# Altium footprint library multiplex.PcbLib: 1 footprints
Each footprint in its own frame and in the unit in brackets; x right, y up, seen from the top. Pads: shape width x height; smd on the part's side, far side on the other; paste and mask are expansions set on the pad; w line width, h text height; cw(c..) or ccw(c..) is an arc to the next point about the centre after c.
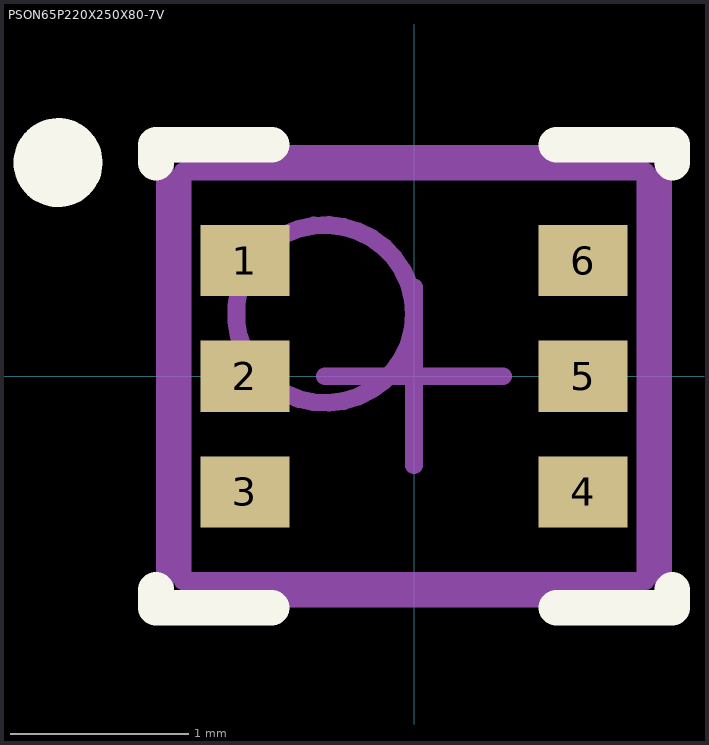
[diagram p0: the footprint, top view; thin cyan lines are the x and y axes]

## PSON65P220X250X80-7V [mm] "PSON, 6-Leads, Body 2.2x2.5 mm, Pitch 0.65mm, NSC Recommended (SC-70 Land)"
height 0.8
pads (6):
  rect 0.5x0.4 smd paste-0.125 mask+0.051: 1(-0.95,0.65) 2(-0.95,0) 3(-0.95,-0.65) 4(0.95,-0.65) 5(0.95,0) 6(0.95,0.65)
Top Overlay:
  circle w0.25: c-2,1.2 r0.125
  lines w0.2: -1.45,-1.3 -1.45,-1.2 ; -1.45,1.2 -1.45,1.3 ; -1.445,-1.3 -0.8,-1.3 ; -1.445,1.3 -0.8,1.3 ; 0.8,-1.3 1.445,-1.3 ; 0.8,1.3 1.445,1.3 ; 1.45,-1.3 1.45,-1.2 ; 1.45,1.2 1.45,1.3
Mechanical 13:
  circle w0.1: c-0.5,0.35 r0.5
  lines w0.1: -1.3,-1.15 1.3,-1.15 1.3,1.15 -1.3,1.15 -1.3,-1.15
Mechanical 15:
  lines w0.1: -0.5,0 0.5,0 ; 0,-0.5 0,0.5 ; -1.4,-1.25 1.4,-1.25 1.4,1.25 -1.4,1.25 -1.4,-1.25